# Altium schematic symbol library SCH - POWER - SWITCHMODE - ANALOG DEVICES ADP5071 LFCSP-20 CP-20-8.SchLib: 1 symbol
Pins are listed as number, name and electrical type; pins without a type are passive.

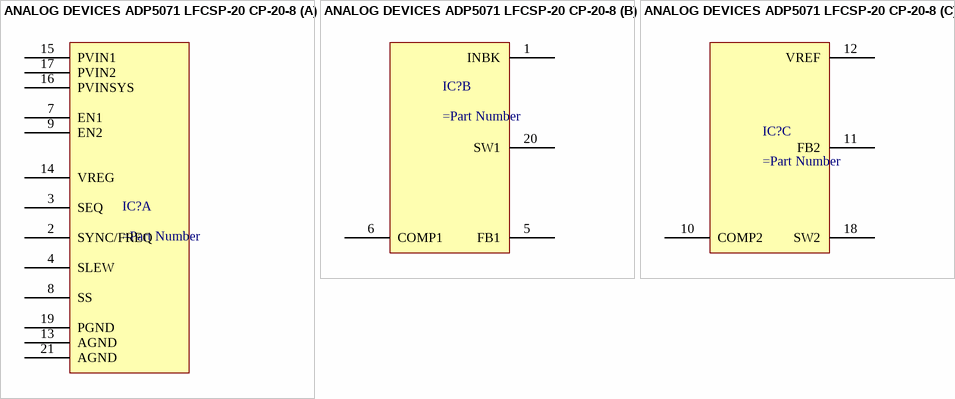
[diagram p0: symbol ANALOG DEVICES ADP5071 LFCSP-20 CP-20-8]

## ANALOG DEVICES ADP5071 LFCSP-20 CP-20-8
designator IC?
part A pins: 2 SYNC/FREQ, 3 SEQ, 4 SLEW, 7 EN1, 8 SS, 9 EN2, 13 AGND, 14 VREG, 15 PVIN1, 16 PVINSYS, 17 PVIN2, 19 PGND, 21 AGND
part B pins: 1 INBK, 5 FB1, 6 COMP1, 20 SW1
part C pins: 10 COMP2, 11 FB2, 12 VREF, 18 SW2